# Altium footprint library CE_30X50MM.PcbLib: 1 footprints
Each footprint in its own frame and in the unit in brackets; x right, y up, seen from the top. Pads: shape width x height; smd on the part's side, far side on the other; paste and mask are expansions set on the pad; w line width, h text height; cw(c..) or ccw(c..) is an arc to the next point about the centre after c.
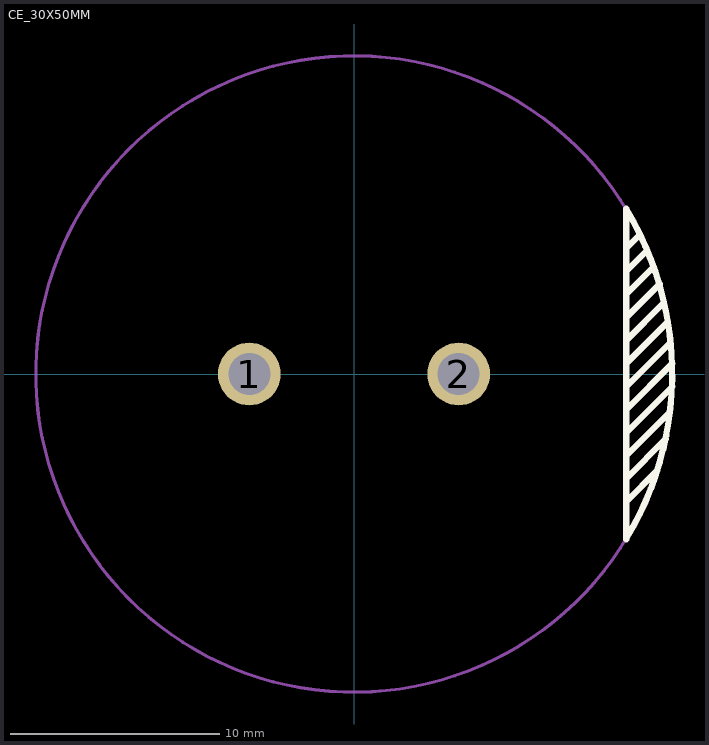
[diagram p0: the footprint, top view; thin cyan lines are the x and y axes]

## CE_30X50MM [mm]
pads (2):
  round 3 hole 2 mask+0.05: 1(-5,0) 2(5,0)
Top Overlay:
  lines w0.3: 13,-7.9 13,7.9 ; 13,-6.1 14.5,-4.6 ; 13,-5 14.9,-3.1 ; 13,-3.9 15.1,-1.8 ; 13,-2.8 15.2,-0.6 ; 13,-1.7 15.2,0.5 ; 13,-0.6 15.1,1.5 ; 13,0.5 15,2.5 ; 13,1.6 14.8,3.4 ; 13,2.7 14.6,4.3 ; 13,3.8 14.3,5.1 ; 13,4.9 13.966,5.866 ; 13,6 13.6,6.6 ; 13.007,7.865 cw(c0,0) 13.016,-7.85
Top Assembly:
  circle w0.15: c0,0 r15.2
Top Courtyard:
  circle w0.15: c0,0 r15.2
3D body "User Library-Assy_CE_R400_D1200_H2000.STEP": height 50.9, standoff -6.79, extent -15.24,-15.24 15.24,15.24